# Altium schematic symbol library NPN1.Schlib: 1 symbol
Pins are listed as number, name and electrical type; pins without a type are passive.

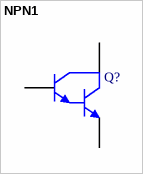
[diagram p0: symbol NPN1]

## NPN1
designator Q?
NPN Darlington Bipolar Transistor
pins: 1 C, 2 B, 3 E